# EAGLE library part TEENSY_4.1_DIL (library Teensy4.1 - back)
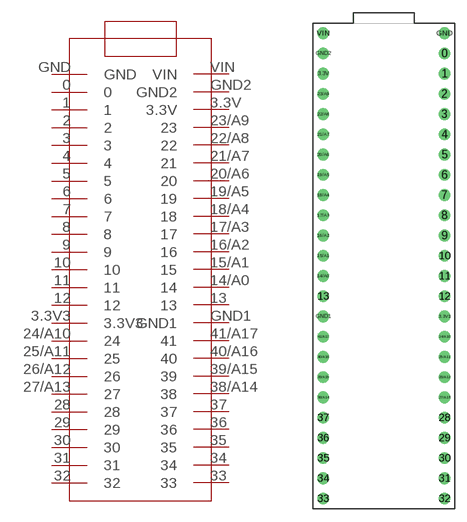
[diagram p22: symbol with the pads of TEENSY_4.1_DIL; footprint TEENSY_4.1_DIL]

Designator prefix -

## TEENSY_4.1_DIL  [TEENSY_4.1_DIL]
0  0
1  1
2  2
3  3
3.3V  3.3V
3.3V3  3.3V3
4  4
5  5
6  6
7  7
8  8
9  9
10  10
11  11
12  12
13  13
14/A0  14
15/A1  15
16/A2  16
17/A3  17
18/A4  18
19/A5  19
20/A6  20
21/A7  21
22/A8  22
23/A9  23
24/A10  24
25/A11  25
26/A12  26
27/A13  27
28  28
29  29
30  30
31  31
32  32
33  33
34  34
35  35
36  36
37  37
38/A14  38
39/A15  39
40/A16  40
41/A17  41
GND  GND
GND1  GND1
GND2  GND2
VIN  VIN

## Footprint TEENSY_4.1_DIL (pad centres in mm)
drill 0.965: 0 7.62,25.4; 1 7.62,22.86; 2 7.62,20.32; 3 7.62,17.78; 3.3V -7.62,22.86; 3.3V3 7.62,-7.62; 4 7.62,15.24; 5 7.62,12.7; 6 7.62,10.16; 7 7.62,7.62; 8 7.62,5.08; 9 7.62,2.54; 10 7.62,0; 11 7.62,-2.54; 12 7.62,-5.08; 13 -7.62,-5.08; 14/A0 -7.62,-2.54; 15/A1 -7.62,0; 16/A2 -7.62,2.54; 17/A3 -7.62,5.08; 18/A4 -7.62,7.62; 19/A5 -7.62,10.16; 20/A6 -7.62,12.7; 21/A7 -7.62,15.24; 22/A8 -7.62,17.78; 23/A9 -7.62,20.32; 24/A10 7.62,-10.16; 25/A11 7.62,-12.7; 26/A12 7.62,-15.24; 27/A13 7.62,-17.78; 28 7.62,-20.32; 29 7.62,-22.86; 30 7.62,-25.4; 31 7.62,-27.94; 32 7.62,-30.48; 33 -7.62,-30.48; 34 -7.62,-27.94; 35 -7.62,-25.4; 36 -7.62,-22.86; 37 -7.62,-20.32; 38/A14 -7.62,-17.78; 39/A15 -7.62,-15.24; 40/A16 -7.62,-12.7; 41/A17 -7.62,-10.16; GND 7.62,27.94; GND1 -7.62,-7.62; GND2 -7.62,25.4; VIN -7.62,27.94